# Altium schematic symbol library kmilo17pet-NSC_LDO.SchLib: 2675 symbols (part 60 of 65)
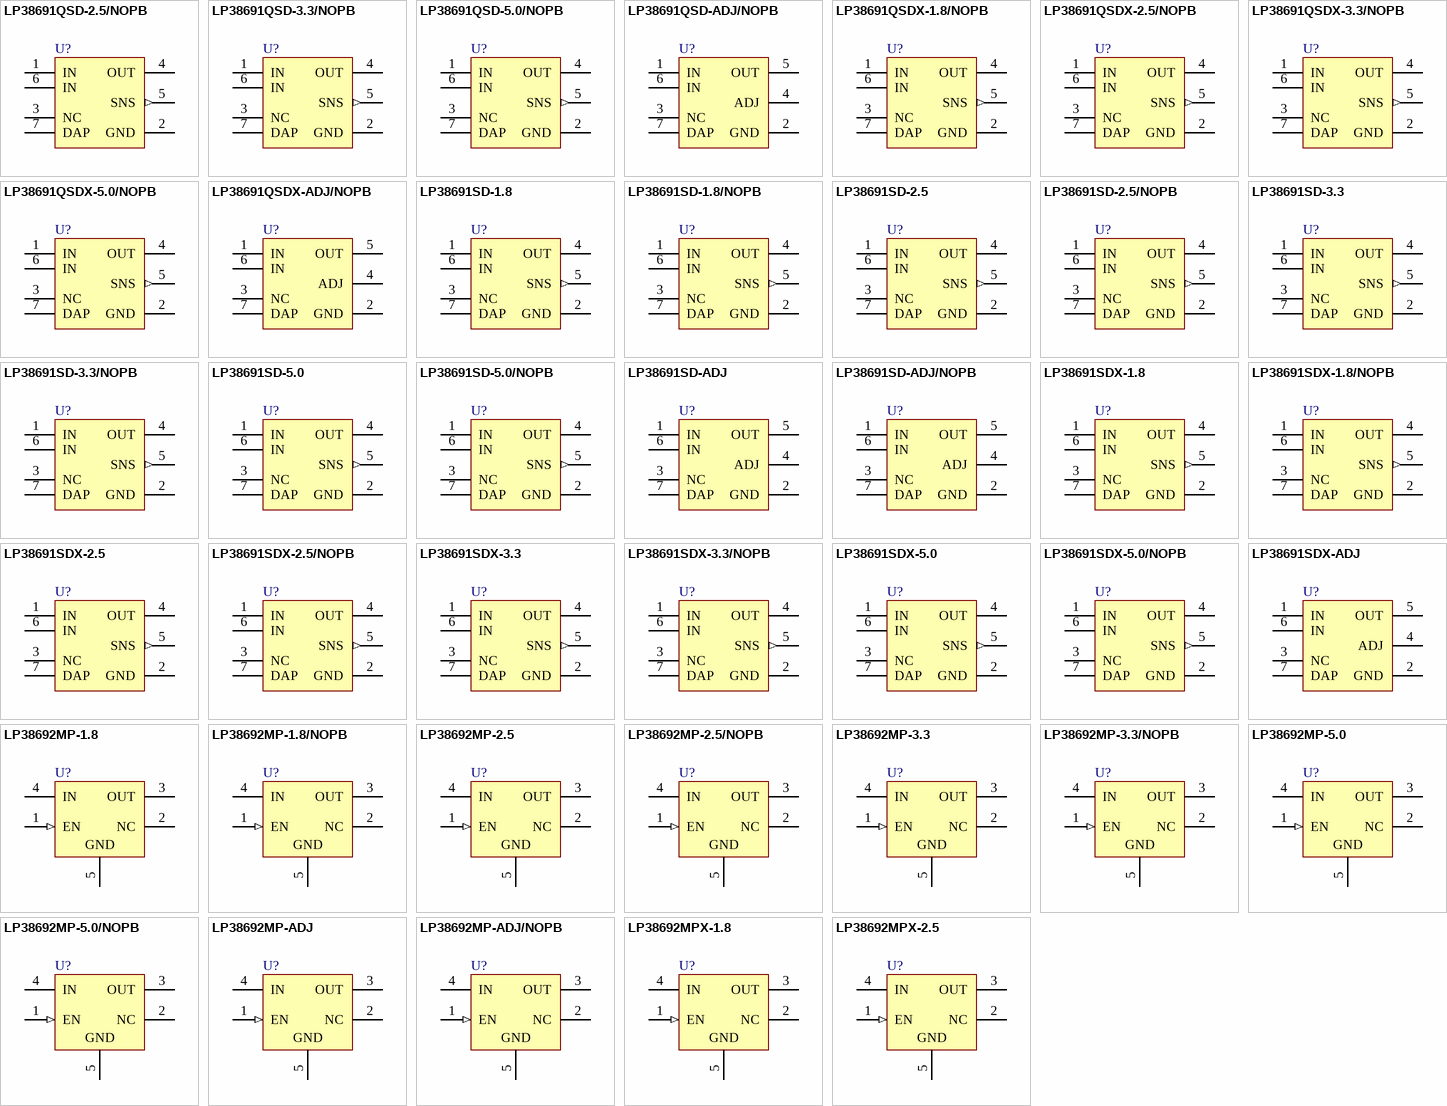
[diagram p126: symbols LP38691QSD-2.5/NOPB to LP38692MPX-2.5]

## LP38692MP-1.8/NOPB
designator U?
1A Low Dropout CMOS Linear Regulators, Stable with Ceramic Output Capacitors, 5-pin SOT-223, Pb-Free; PartNumber: LP38692MP-1.8/NOPB; Manufacturer: National Semiconductor; PackageTopMarking: XYTT*LJPB; PowerWise: Y; CompType: LDO IC; DatasheetVersion: May-2005; PackageVersion: revA, Jan-2000; PackageReference: MP05A; PackageDescription: Moldec SOT-223, 6.50 x 3.56 x 1.6mm Body, 5 Lead, 1.5mm Pitch; RoHS: Y; PinCount: 5; High-Reliability: Y; Code_JEDEC: TO-261-AB; Code_IPC: SOT223-5; ComponentLink1Description: Manufacturer URL; ComponentLink1URL: http://www.national.com/; ComponentLink2Description: LP38692 Datasheet; ComponentLink2URL: http://www.national.com/ds/LP/LP38692.pdf; ComponentLink3Description: LP38692 Web Page; ComponentLink3URL: http://www.national.com/pf/LP/LP38692.html; ComponentLink4Description: MP05A Package Page; ComponentLink4URL: http://www.national.com/packaging/folders/mp05a.html
footprint MP05A_N (SOT223, 5-Leads, Body 6.5x3.5mm, Pitch 1.5mm, Lead Span 7mm, IPC Medium Density)
footprint MP05A_L (SOT223, 5-Leads, Body 6.5x3.5mm, Pitch 1.5mm, Lead Span 7mm, IPC High Density)
footprint MP05A_M (SOT223, 5-Leads, Body 6.5x3.5mm, Pitch 1.5mm, Lead Span 7mm, IPC Low Density)
pins: 1 EN (in), 2 NC, 3 OUT (power), 4 IN (power), 5 GND (power)

## LP38692MP-2.5
designator U?
1A Low Dropout CMOS Linear Regulators, 5-pin SOT-223; PartNumber: LP38692MP-2.5; Manufacturer: National Semiconductor; PackageTopMarking: XYTT*LJRB; PowerWise: Y; CompType: LDO IC; DatasheetVersion: May-2005; PackageVersion: revA, Jan-2000; PackageReference: MP05A; PackageDescription: Moldec SOT-223, 6.50 x 3.56 x 1.6mm Body, 5 Lead, 1.5mm Pitch; RoHS: N; PinCount: 5; High-Reliability: Y; Code_JEDEC: TO-261-AB; Code_IPC: SOT223-5; ComponentLink1Description: Manufacturer URL; ComponentLink1URL: http://www.national.com/; ComponentLink2Description: LP38692 Datasheet; ComponentLink2URL: http://www.national.com/ds/LP/LP38692.pdf; ComponentLink3Description: LP38692 Web Page; ComponentLink3URL: http://www.national.com/pf/LP/LP38692.html; ComponentLink4Description: MP05A Package Page; ComponentLink4URL: http://www.national.com/packaging/folders/mp05a.html
footprint MP05A_N (SOT223, 5-Leads, Body 6.5x3.5mm, Pitch 1.5mm, Lead Span 7mm, IPC Medium Density)
footprint MP05A_L (SOT223, 5-Leads, Body 6.5x3.5mm, Pitch 1.5mm, Lead Span 7mm, IPC High Density)
footprint MP05A_M (SOT223, 5-Leads, Body 6.5x3.5mm, Pitch 1.5mm, Lead Span 7mm, IPC Low Density)
pins: 1 EN (in), 2 NC, 3 OUT (power), 4 IN (power), 5 GND (power)

## LP38692MP-2.5/NOPB
designator U?
1A Low Dropout CMOS Linear Regulators, Stable with Ceramic Output Capacitors, 5-pin SOT-223, Pb-Free; PartNumber: LP38692MP-2.5/NOPB; Manufacturer: National Semiconductor; PackageTopMarking: XYTT*LJRB; PowerWise: Y; CompType: LDO IC; DatasheetVersion: May-2005; PackageVersion: revA, Jan-2000; PackageReference: MP05A; PackageDescription: Moldec SOT-223, 6.50 x 3.56 x 1.6mm Body, 5 Lead, 1.5mm Pitch; RoHS: Y; PinCount: 5; High-Reliability: Y; Code_JEDEC: TO-261-AB; Code_IPC: SOT223-5; ComponentLink1Description: Manufacturer URL; ComponentLink1URL: http://www.national.com/; ComponentLink2Description: LP38692 Datasheet; ComponentLink2URL: http://www.national.com/ds/LP/LP38692.pdf; ComponentLink3Description: LP38692 Web Page; ComponentLink3URL: http://www.national.com/pf/LP/LP38692.html; ComponentLink4Description: MP05A Package Page; ComponentLink4URL: http://www.national.com/packaging/folders/mp05a.html
footprint MP05A_N (SOT223, 5-Leads, Body 6.5x3.5mm, Pitch 1.5mm, Lead Span 7mm, IPC Medium Density)
footprint MP05A_L (SOT223, 5-Leads, Body 6.5x3.5mm, Pitch 1.5mm, Lead Span 7mm, IPC High Density)
footprint MP05A_M (SOT223, 5-Leads, Body 6.5x3.5mm, Pitch 1.5mm, Lead Span 7mm, IPC Low Density)
pins: 1 EN (in), 2 NC, 3 OUT (power), 4 IN (power), 5 GND (power)

## LP38692MP-3.3
designator U?
1A Low Dropout CMOS Linear Regulators, 5-pin SOT-223; PartNumber: LP38692MP-3.3; Manufacturer: National Semiconductor; PackageTopMarking: XYTT*LJSB; PowerWise: Y; CompType: LDO IC; DatasheetVersion: May-2005; PackageVersion: revA, Jan-2000; PackageReference: MP05A; PackageDescription: Moldec SOT-223, 6.50 x 3.56 x 1.6mm Body, 5 Lead, 1.5mm Pitch; RoHS: N; PinCount: 5; High-Reliability: Y; Code_JEDEC: TO-261-AB; Code_IPC: SOT223-5; ComponentLink1Description: Manufacturer URL; ComponentLink1URL: http://www.national.com/; ComponentLink2Description: LP38692 Datasheet; ComponentLink2URL: http://www.national.com/ds/LP/LP38692.pdf; ComponentLink3Description: LP38692 Web Page; ComponentLink3URL: http://www.national.com/pf/LP/LP38692.html; ComponentLink4Description: MP05A Package Page; ComponentLink4URL: http://www.national.com/packaging/folders/mp05a.html
footprint MP05A_N (SOT223, 5-Leads, Body 6.5x3.5mm, Pitch 1.5mm, Lead Span 7mm, IPC Medium Density)
footprint MP05A_L (SOT223, 5-Leads, Body 6.5x3.5mm, Pitch 1.5mm, Lead Span 7mm, IPC High Density)
footprint MP05A_M (SOT223, 5-Leads, Body 6.5x3.5mm, Pitch 1.5mm, Lead Span 7mm, IPC Low Density)
pins: 1 EN (in), 2 NC, 3 OUT (power), 4 IN (power), 5 GND (power)

## LP38692MP-3.3/NOPB
designator U?
1A Low Dropout CMOS Linear Regulators, Stable with Ceramic Output Capacitors, 5-pin SOT-223, Pb-Free; PartNumber: LP38692MP-3.3/NOPB; Manufacturer: National Semiconductor; PackageTopMarking: XYTT*LJSB; PowerWise: Y; CompType: LDO IC; DatasheetVersion: May-2005; PackageVersion: revA, Jan-2000; PackageReference: MP05A; PackageDescription: Moldec SOT-223, 6.50 x 3.56 x 1.6mm Body, 5 Lead, 1.5mm Pitch; RoHS: Y; PinCount: 5; High-Reliability: Y; Code_JEDEC: TO-261-AB; Code_IPC: SOT223-5; ComponentLink1Description: Manufacturer URL; ComponentLink1URL: http://www.national.com/; ComponentLink2Description: LP38692 Datasheet; ComponentLink2URL: http://www.national.com/ds/LP/LP38692.pdf; ComponentLink3Description: LP38692 Web Page; ComponentLink3URL: http://www.national.com/pf/LP/LP38692.html; ComponentLink4Description: MP05A Package Page; ComponentLink4URL: http://www.national.com/packaging/folders/mp05a.html
footprint MP05A_N (SOT223, 5-Leads, Body 6.5x3.5mm, Pitch 1.5mm, Lead Span 7mm, IPC Medium Density)
footprint MP05A_L (SOT223, 5-Leads, Body 6.5x3.5mm, Pitch 1.5mm, Lead Span 7mm, IPC High Density)
footprint MP05A_M (SOT223, 5-Leads, Body 6.5x3.5mm, Pitch 1.5mm, Lead Span 7mm, IPC Low Density)
pins: 1 EN (in), 2 NC, 3 OUT (power), 4 IN (power), 5 GND (power)

## LP38692MP-5.0
designator U?
1A Low Dropout CMOS Linear Regulators, 5-pin SOT-223; PartNumber: LP38692MP-5.0; Manufacturer: National Semiconductor; PackageTopMarking: XYTT*LJTB; PowerWise: Y; CompType: LDO IC; DatasheetVersion: May-2005; PackageVersion: revA, Jan-2000; PackageReference: MP05A; PackageDescription: Moldec SOT-223, 6.50 x 3.56 x 1.6mm Body, 5 Lead, 1.5mm Pitch; RoHS: N; PinCount: 5; High-Reliability: Y; Code_JEDEC: TO-261-AB; Code_IPC: SOT223-5; ComponentLink1Description: Manufacturer URL; ComponentLink1URL: http://www.national.com/; ComponentLink2Description: LP38692 Datasheet; ComponentLink2URL: http://www.national.com/ds/LP/LP38692.pdf; ComponentLink3Description: LP38692 Web Page; ComponentLink3URL: http://www.national.com/pf/LP/LP38692.html; ComponentLink4Description: MP05A Package Page; ComponentLink4URL: http://www.national.com/packaging/folders/mp05a.html
footprint MP05A_N (SOT223, 5-Leads, Body 6.5x3.5mm, Pitch 1.5mm, Lead Span 7mm, IPC Medium Density)
footprint MP05A_L (SOT223, 5-Leads, Body 6.5x3.5mm, Pitch 1.5mm, Lead Span 7mm, IPC High Density)
footprint MP05A_M (SOT223, 5-Leads, Body 6.5x3.5mm, Pitch 1.5mm, Lead Span 7mm, IPC Low Density)
pins: 1 EN (in), 2 NC, 3 OUT (power), 4 IN (power), 5 GND (power)

## LP38692MP-5.0/NOPB
designator U?
1A Low Dropout CMOS Linear Regulators, Stable with Ceramic Output Capacitors, 5-pin SOT-223, Pb-Free; PartNumber: LP38692MP-5.0/NOPB; Manufacturer: National Semiconductor; PackageTopMarking: XYTT*LJTB; PowerWise: Y; CompType: LDO IC; DatasheetVersion: May-2005; PackageVersion: revA, Jan-2000; PackageReference: MP05A; PackageDescription: Moldec SOT-223, 6.50 x 3.56 x 1.6mm Body, 5 Lead, 1.5mm Pitch; RoHS: Y; PinCount: 5; High-Reliability: Y; Code_JEDEC: TO-261-AB; Code_IPC: SOT223-5; ComponentLink1Description: Manufacturer URL; ComponentLink1URL: http://www.national.com/; ComponentLink2Description: LP38692 Datasheet; ComponentLink2URL: http://www.national.com/ds/LP/LP38692.pdf; ComponentLink3Description: LP38692 Web Page; ComponentLink3URL: http://www.national.com/pf/LP/LP38692.html; ComponentLink4Description: MP05A Package Page; ComponentLink4URL: http://www.national.com/packaging/folders/mp05a.html
footprint MP05A_N (SOT223, 5-Leads, Body 6.5x3.5mm, Pitch 1.5mm, Lead Span 7mm, IPC Medium Density)
footprint MP05A_L (SOT223, 5-Leads, Body 6.5x3.5mm, Pitch 1.5mm, Lead Span 7mm, IPC High Density)
footprint MP05A_M (SOT223, 5-Leads, Body 6.5x3.5mm, Pitch 1.5mm, Lead Span 7mm, IPC Low Density)
pins: 1 EN (in), 2 NC, 3 OUT (power), 4 IN (power), 5 GND (power)

## LP38692MP-ADJ
designator U?
1A Low Dropout CMOS Linear Regulators, 5-pin SOT-223; PartNumber: LP38692MP-ADJ; Manufacturer: National Semiconductor; PackageTopMarking: XYTT*LJNB; PowerWise: Y; CompType: LDO IC; DatasheetVersion: Jan-2005; PackageVersion: revA, Jan-2000; PackageReference: MP05A; PackageDescription: Moldec SOT-223, 6.50 x 3.56 x 1.6mm Body, 5 Lead, 1.5mm Pitch; RoHS: N; PinCount: 5; High-Reliability: Y; Code_JEDEC: TO-261-AB; Code_IPC: SOT223-5; ComponentLink1Description: Manufacturer URL; ComponentLink1URL: http://www.national.com/; ComponentLink2Description: LP38692 Datasheet; ComponentLink2URL: http://www.national.com/ds/LP/LP38692-ADJ.pdf; ComponentLink3Description: LP38692 Web Page; ComponentLink3URL: http://www.national.com/pf/LP/LP38692.html; ComponentLink4Description: MP05A Package Page; ComponentLink4URL: http://www.national.com/packaging/folders/mp05a.html
footprint MP05A_N (SOT223, 5-Leads, Body 6.5x3.5mm, Pitch 1.5mm, Lead Span 7mm, IPC Medium Density)
footprint MP05A_L (SOT223, 5-Leads, Body 6.5x3.5mm, Pitch 1.5mm, Lead Span 7mm, IPC High Density)
footprint MP05A_M (SOT223, 5-Leads, Body 6.5x3.5mm, Pitch 1.5mm, Lead Span 7mm, IPC Low Density)
pins: 1 EN (in), 2 NC, 3 OUT (power), 4 IN (power), 5 GND (power)

## LP38692MP-ADJ/NOPB
designator U?
1A Low Dropout CMOS Linear Regulators with Adjustable Output Stable with Ceramic Output Capacitors, 5-pin SOT-223, Pb-Free; PartNumber: LP38692MP-ADJ/NOPB; Manufacturer: National Semiconductor; PackageTopMarking: XYTT*LJNB; PowerWise: Y; CompType: LDO IC; DatasheetVersion: Jan-2005; PackageVersion: revA, Jan-2000; PackageReference: MP05A; PackageDescription: Moldec SOT-223, 6.50 x 3.56 x 1.6mm Body, 5 Lead, 1.5mm Pitch; RoHS: Y; PinCount: 5; High-Reliability: Y; Code_JEDEC: TO-261-AB; Code_IPC: SOT223-5; ComponentLink1Description: Manufacturer URL; ComponentLink1URL: http://www.national.com/; ComponentLink2Description: LP38692 Datasheet; ComponentLink2URL: http://www.national.com/ds/LP/LP38692-ADJ.pdf; ComponentLink3Description: LP38692 Web Page; ComponentLink3URL: http://www.national.com/pf/LP/LP38692.html; ComponentLink4Description: MP05A Package Page; ComponentLink4URL: http://www.national.com/packaging/folders/mp05a.html
footprint MP05A_N (SOT223, 5-Leads, Body 6.5x3.5mm, Pitch 1.5mm, Lead Span 7mm, IPC Medium Density)
footprint MP05A_L (SOT223, 5-Leads, Body 6.5x3.5mm, Pitch 1.5mm, Lead Span 7mm, IPC High Density)
footprint MP05A_M (SOT223, 5-Leads, Body 6.5x3.5mm, Pitch 1.5mm, Lead Span 7mm, IPC Low Density)
pins: 1 EN (in), 2 NC, 3 OUT (power), 4 IN (power), 5 GND (power)

## LP38692MPX-1.8
designator U?
1A Low Dropout CMOS Linear Regulators, Stable with Ceramic Output Capacitors, 5-pin SOT-223; PartNumber: LP38692MPX-1.8; Manufacturer: National Semiconductor; PackageTopMarking: XYTT*LJPB; PowerWise: Y; CompType: LDO IC; DatasheetVersion: May-2005; PackageVersion: revA, Jan-2000; PackageReference: MP05A; PackageDescription: Moldec SOT-223, 6.50 x 3.56 x 1.6mm Body, 5 Lead, 1.5mm Pitch; RoHS: N; PinCount: 5; High-Reliability: Y; Code_JEDEC: TO-261-AB; Code_IPC: SOT223-5; ComponentLink1Description: Manufacturer URL; ComponentLink1URL: http://www.national.com/; ComponentLink2Description: LP38692 Datasheet; ComponentLink2URL: http://www.national.com/ds/LP/LP38692.pdf; ComponentLink3Description: LP38692 Web Page; ComponentLink3URL: http://www.national.com/pf/LP/LP38692.html; ComponentLink4Description: MP05A Package Page; ComponentLink4URL: http://www.national.com/packaging/folders/mp05a.html
footprint MP05A_N (SOT223, 5-Leads, Body 6.5x3.5mm, Pitch 1.5mm, Lead Span 7mm, IPC Medium Density)
footprint MP05A_L (SOT223, 5-Leads, Body 6.5x3.5mm, Pitch 1.5mm, Lead Span 7mm, IPC High Density)
footprint MP05A_M (SOT223, 5-Leads, Body 6.5x3.5mm, Pitch 1.5mm, Lead Span 7mm, IPC Low Density)
pins: 1 EN (in), 2 NC, 3 OUT (power), 4 IN (power), 5 GND (power)

## LP38692MPX-2.5
designator U?
1A Low Dropout CMOS Linear Regulators, Stable with Ceramic Output Capacitors, 5-pin SOT-223; PartNumber: LP38692MPX-2.5; Manufacturer: National Semiconductor; PackageTopMarking: XYTT*LJRB; PowerWise: Y; CompType: LDO IC; DatasheetVersion: May-2005; PackageVersion: revA, Jan-2000; PackageReference: MP05A; PackageDescription: Moldec SOT-223, 6.50 x 3.56 x 1.6mm Body, 5 Lead, 1.5mm Pitch; RoHS: N; PinCount: 5; High-Reliability: Y; Code_JEDEC: TO-261-AB; Code_IPC: SOT223-5; ComponentLink1Description: Manufacturer URL; ComponentLink1URL: http://www.national.com/; ComponentLink2Description: LP38692 Datasheet; ComponentLink2URL: http://www.national.com/ds/LP/LP38692.pdf; ComponentLink3Description: LP38692 Web Page; ComponentLink3URL: http://www.national.com/pf/LP/LP38692.html; ComponentLink4Description: MP05A Package Page; ComponentLink4URL: http://www.national.com/packaging/folders/mp05a.html
footprint MP05A_N (SOT223, 5-Leads, Body 6.5x3.5mm, Pitch 1.5mm, Lead Span 7mm, IPC Medium Density)
footprint MP05A_L (SOT223, 5-Leads, Body 6.5x3.5mm, Pitch 1.5mm, Lead Span 7mm, IPC High Density)
footprint MP05A_M (SOT223, 5-Leads, Body 6.5x3.5mm, Pitch 1.5mm, Lead Span 7mm, IPC Low Density)
pins: 1 EN (in), 2 NC, 3 OUT (power), 4 IN (power), 5 GND (power)

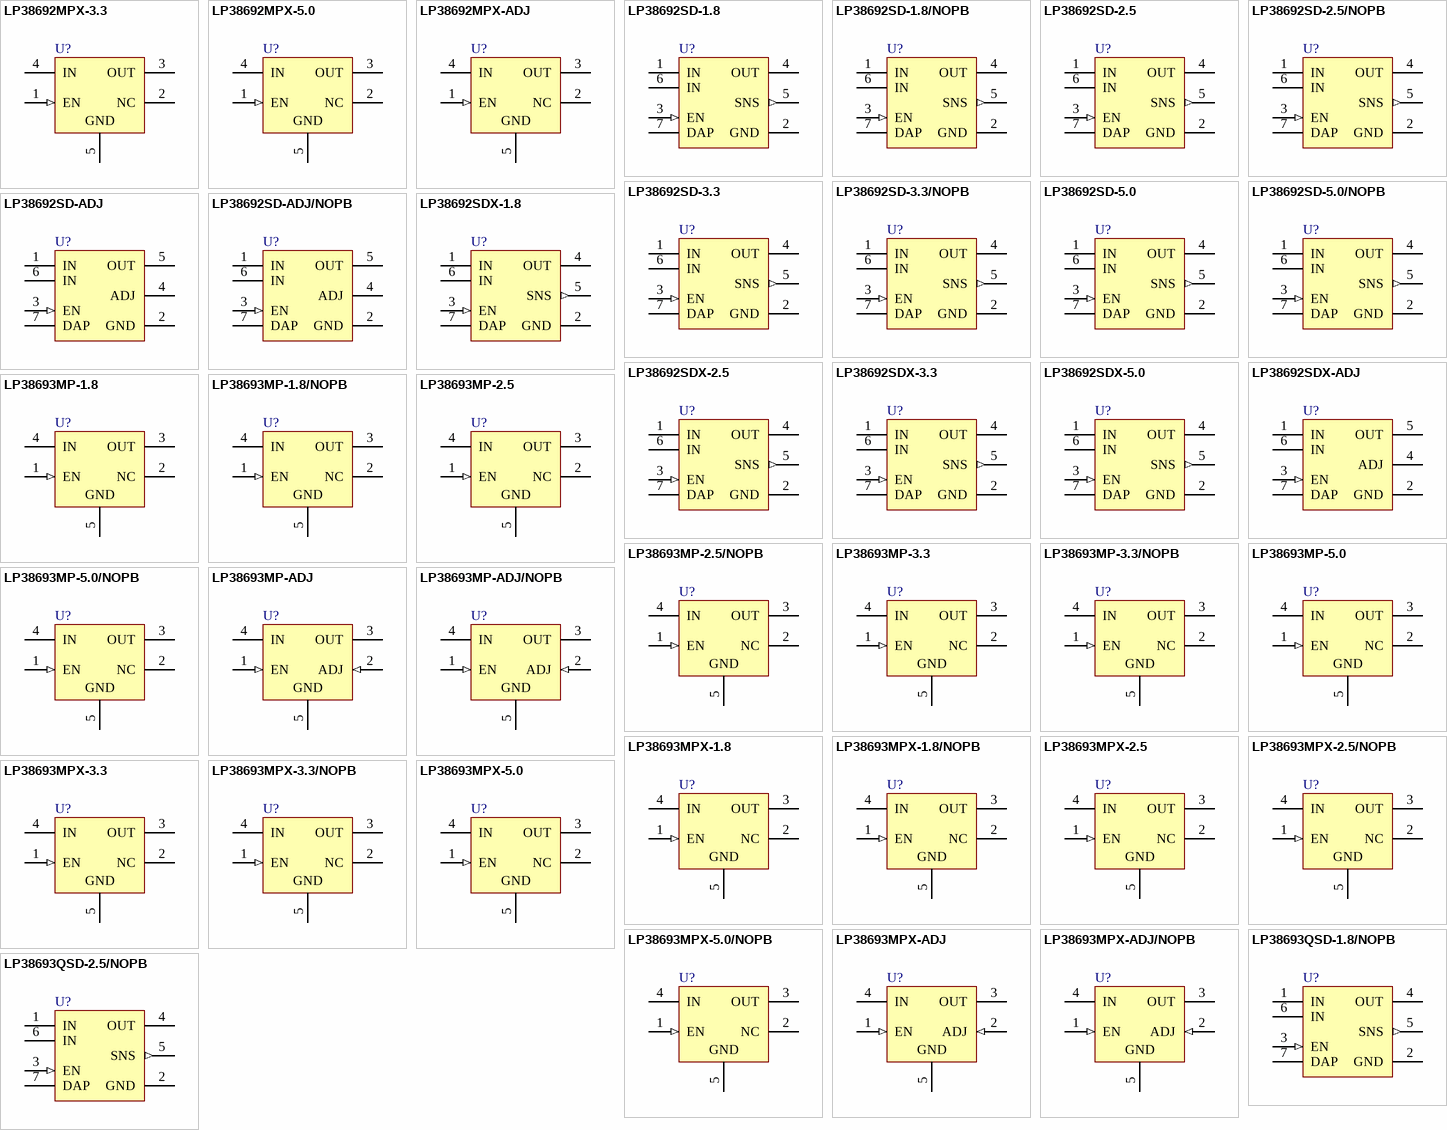
[diagram p62: symbols LP38692MPX-3.3 to LP38693QSD-2.5/NOPB]

## LP38692MPX-3.3
designator U?
1A Low Dropout CMOS Linear Regulators, Stable with Ceramic Output Capacitors, 5-pin SOT-223; PartNumber: LP38692MPX-3.3; Manufacturer: National Semiconductor; PackageTopMarking: XYTT*LJSB; PowerWise: Y; CompType: LDO IC; DatasheetVersion: May-2005; PackageVersion: revA, Jan-2000; PackageReference: MP05A; PackageDescription: Moldec SOT-223, 6.50 x 3.56 x 1.6mm Body, 5 Lead, 1.5mm Pitch; RoHS: N; PinCount: 5; High-Reliability: Y; Code_JEDEC: TO-261-AB; Code_IPC: SOT223-5; ComponentLink1Description: Manufacturer URL; ComponentLink1URL: http://www.national.com/; ComponentLink2Description: LP38692 Datasheet; ComponentLink2URL: http://www.national.com/ds/LP/LP38692.pdf; ComponentLink3Description: LP38692 Web Page; ComponentLink3URL: http://www.national.com/pf/LP/LP38692.html; ComponentLink4Description: MP05A Package Page; ComponentLink4URL: http://www.national.com/packaging/folders/mp05a.html
footprint MP05A_N (SOT223, 5-Leads, Body 6.5x3.5mm, Pitch 1.5mm, Lead Span 7mm, IPC Medium Density)
footprint MP05A_L (SOT223, 5-Leads, Body 6.5x3.5mm, Pitch 1.5mm, Lead Span 7mm, IPC High Density)
footprint MP05A_M (SOT223, 5-Leads, Body 6.5x3.5mm, Pitch 1.5mm, Lead Span 7mm, IPC Low Density)
pins: 1 EN (in), 2 NC, 3 OUT (power), 4 IN (power), 5 GND (power)

## LP38692MPX-5.0
designator U?
1A Low Dropout CMOS Linear Regulators, Stable with Ceramic Output Capacitors, 5-pin SOT-223; PartNumber: LP38692MPX-5.0; Manufacturer: National Semiconductor; PackageTopMarking: XYTT*LJTB; PowerWise: Y; CompType: LDO IC; DatasheetVersion: May-2005; PackageVersion: revA, Jan-2000; PackageReference: MP05A; PackageDescription: Moldec SOT-223, 6.50 x 3.56 x 1.6mm Body, 5 Lead, 1.5mm Pitch; RoHS: N; PinCount: 5; High-Reliability: Y; Code_JEDEC: TO-261-AB; Code_IPC: SOT223-5; ComponentLink1Description: Manufacturer URL; ComponentLink1URL: http://www.national.com/; ComponentLink2Description: LP38692 Datasheet; ComponentLink2URL: http://www.national.com/ds/LP/LP38692.pdf; ComponentLink3Description: LP38692 Web Page; ComponentLink3URL: http://www.national.com/pf/LP/LP38692.html; ComponentLink4Description: MP05A Package Page; ComponentLink4URL: http://www.national.com/packaging/folders/mp05a.html
footprint MP05A_N (SOT223, 5-Leads, Body 6.5x3.5mm, Pitch 1.5mm, Lead Span 7mm, IPC Medium Density)
footprint MP05A_L (SOT223, 5-Leads, Body 6.5x3.5mm, Pitch 1.5mm, Lead Span 7mm, IPC High Density)
footprint MP05A_M (SOT223, 5-Leads, Body 6.5x3.5mm, Pitch 1.5mm, Lead Span 7mm, IPC Low Density)
pins: 1 EN (in), 2 NC, 3 OUT (power), 4 IN (power), 5 GND (power)

## LP38692MPX-ADJ
designator U?
1A Low Dropout CMOS Linear Regulators with Adjustable Output Stable with Ceramic Output Capacitors, 5-pin SOT-223; PartNumber: LP38692MPX-ADJ; Manufacturer: National Semiconductor; PackageTopMarking: XYTT*LJNB; PowerWise: Y; CompType: LDO IC; DatasheetVersion: Jan-2005; PackageVersion: revA, Jan-2000; PackageReference: MP05A; PackageDescription: Moldec SOT-223, 6.50 x 3.56 x 1.6mm Body, 5 Lead, 1.5mm Pitch; RoHS: N; PinCount: 5; High-Reliability: Y; Code_JEDEC: TO-261-AB; Code_IPC: SOT223-5; ComponentLink1Description: Manufacturer URL; ComponentLink1URL: http://www.national.com/; ComponentLink2Description: LP38692 Datasheet; ComponentLink2URL: http://www.national.com/ds/LP/LP38692-ADJ.pdf; ComponentLink3Description: LP38692 Web Page; ComponentLink3URL: http://www.national.com/pf/LP/LP38692.html; ComponentLink4Description: MP05A Package Page; ComponentLink4URL: http://www.national.com/packaging/folders/mp05a.html
footprint MP05A_N (SOT223, 5-Leads, Body 6.5x3.5mm, Pitch 1.5mm, Lead Span 7mm, IPC Medium Density)
footprint MP05A_L (SOT223, 5-Leads, Body 6.5x3.5mm, Pitch 1.5mm, Lead Span 7mm, IPC High Density)
footprint MP05A_M (SOT223, 5-Leads, Body 6.5x3.5mm, Pitch 1.5mm, Lead Span 7mm, IPC Low Density)
pins: 1 EN (in), 2 NC, 3 OUT (power), 4 IN (power), 5 GND (power)

## LP38692SD-1.8
designator U?
1A Low Dropout CMOS Linear Regulators, 6-pin LLP; PartNumber: LP38692SD-1.8; Manufacturer: National Semiconductor; PackageTopMarking: ZXYTT*L123B; PowerWise: Y; CompType: LDO IC; DatasheetVersion: May-2005; PackageVersion: revA, Jul-2003; PackageReference: SDE06A; PackageDescription: LLP, Plastic, Dual, 3 x 3 x 0.8mm Body, 6 Lead, 0.95mm Pitch, No Pullback; RoHS: N; PinCount: 6; High-Reliability: Y; ComponentLink1Description: Manufacturer URL; ComponentLink1URL: http://www.national.com/; ComponentLink2Description: LP38692 Datasheet; ComponentLink2URL: http://www.national.com/ds/LP/LP38692.pdf; ComponentLink3Description: LP38692 Web Page; ComponentLink3URL: http://www.national.com/pf/LP/LP38692.html; ComponentLink4Description: SDE06A Package Page; ComponentLink4URL: http://www.national.com/packaging/folders/sde06a.html
footprint SDE06A_full (SON, 6-Leads, Body 3x3 mm, Pitch 0.95mm, Full Paste, NSC Recommended)
footprint SDE06A_quad (SON, 6-Leads, Body 3x3 mm, Pitch 0.95mm, Quad Paste, NSC Recommended)
pins: 1 IN (power), 2 GND (power), 3 EN (in), 4 OUT (power), 5 SNS (out), 6 IN (power), 7 DAP (power)

## LP38692SD-1.8/NOPB
designator U?
1A Low Dropout CMOS Linear Regulators, Stable with Ceramic Output Capacitors, 6-pin LLP, Pb-Free; PartNumber: LP38692SD-1.8/NOPB; Manufacturer: National Semiconductor; PackageTopMarking: ZXYTT*L123B; PowerWise: Y; CompType: LDO IC; DatasheetVersion: May-2005; PackageVersion: revA, Jul-2003; PackageReference: SDE06A; PackageDescription: LLP, Plastic, Dual, 3 x 3 x 0.8mm Body, 6 Lead, 0.95mm Pitch, No Pullback; RoHS: Y; PinCount: 6; High-Reliability: Y; ComponentLink1Description: Manufacturer URL; ComponentLink1URL: http://www.national.com/; ComponentLink2Description: LP38692 Datasheet; ComponentLink2URL: http://www.national.com/ds/LP/LP38692.pdf; ComponentLink3Description: LP38692 Web Page; ComponentLink3URL: http://www.national.com/pf/LP/LP38692.html; ComponentLink4Description: SDE06A Package Page; ComponentLink4URL: http://www.national.com/packaging/folders/sde06a.html
footprint SDE06A_full (SON, 6-Leads, Body 3x3 mm, Pitch 0.95mm, Full Paste, NSC Recommended)
footprint SDE06A_quad (SON, 6-Leads, Body 3x3 mm, Pitch 0.95mm, Quad Paste, NSC Recommended)
pins: 1 IN (power), 2 GND (power), 3 EN (in), 4 OUT (power), 5 SNS (out), 6 IN (power), 7 DAP (power)

## LP38692SD-2.5
designator U?
1A Low Dropout CMOS Linear Regulators, 6-pin LLP; PartNumber: LP38692SD-2.5; Manufacturer: National Semiconductor; PackageTopMarking: ZXYTT*L124B; PowerWise: Y; CompType: LDO IC; DatasheetVersion: May-2005; PackageVersion: revA, Jul-2003; PackageReference: SDE06A; PackageDescription: LLP, Plastic, Dual, 3 x 3 x 0.8mm Body, 6 Lead, 0.95mm Pitch, No Pullback; RoHS: N; PinCount: 6; High-Reliability: Y; ComponentLink1Description: Manufacturer URL; ComponentLink1URL: http://www.national.com/; ComponentLink2Description: LP38692 Datasheet; ComponentLink2URL: http://www.national.com/ds/LP/LP38692.pdf; ComponentLink3Description: LP38692 Web Page; ComponentLink3URL: http://www.national.com/pf/LP/LP38692.html; ComponentLink4Description: SDE06A Package Page; ComponentLink4URL: http://www.national.com/packaging/folders/sde06a.html
footprint SDE06A_full (SON, 6-Leads, Body 3x3 mm, Pitch 0.95mm, Full Paste, NSC Recommended)
footprint SDE06A_quad (SON, 6-Leads, Body 3x3 mm, Pitch 0.95mm, Quad Paste, NSC Recommended)
pins: 1 IN (power), 2 GND (power), 3 EN (in), 4 OUT (power), 5 SNS (out), 6 IN (power), 7 DAP (power)

## LP38692SD-2.5/NOPB
designator U?
1A Low Dropout CMOS Linear Regulators, Stable with Ceramic Output Capacitors, 6-pin LLP, Pb-Free; PartNumber: LP38692SD-2.5/NOPB; Manufacturer: National Semiconductor; PackageTopMarking: ZXYTT*L124B; PowerWise: Y; CompType: LDO IC; DatasheetVersion: May-2005; PackageVersion: revA, Jul-2003; PackageReference: SDE06A; PackageDescription: LLP, Plastic, Dual, 3 x 3 x 0.8mm Body, 6 Lead, 0.95mm Pitch, No Pullback; RoHS: Y; PinCount: 6; High-Reliability: Y; ComponentLink1Description: Manufacturer URL; ComponentLink1URL: http://www.national.com/; ComponentLink2Description: LP38692 Datasheet; ComponentLink2URL: http://www.national.com/ds/LP/LP38692.pdf; ComponentLink3Description: LP38692 Web Page; ComponentLink3URL: http://www.national.com/pf/LP/LP38692.html; ComponentLink4Description: SDE06A Package Page; ComponentLink4URL: http://www.national.com/packaging/folders/sde06a.html
footprint SDE06A_full (SON, 6-Leads, Body 3x3 mm, Pitch 0.95mm, Full Paste, NSC Recommended)
footprint SDE06A_quad (SON, 6-Leads, Body 3x3 mm, Pitch 0.95mm, Quad Paste, NSC Recommended)
pins: 1 IN (power), 2 GND (power), 3 EN (in), 4 OUT (power), 5 SNS (out), 6 IN (power), 7 DAP (power)

## LP38692SD-3.3
designator U?
1A Low Dropout CMOS Linear Regulators, 6-pin LLP; PartNumber: LP38692SD-3.3; Manufacturer: National Semiconductor; PackageTopMarking: ZXYTT*L125B; PowerWise: Y; CompType: LDO IC; DatasheetVersion: May-2005; PackageVersion: revA, Jul-2003; PackageReference: SDE06A; PackageDescription: LLP, Plastic, Dual, 3 x 3 x 0.8mm Body, 6 Lead, 0.95mm Pitch, No Pullback; RoHS: N; PinCount: 6; High-Reliability: Y; ComponentLink1Description: Manufacturer URL; ComponentLink1URL: http://www.national.com/; ComponentLink2Description: LP38692 Datasheet; ComponentLink2URL: http://www.national.com/ds/LP/LP38692.pdf; ComponentLink3Description: LP38692 Web Page; ComponentLink3URL: http://www.national.com/pf/LP/LP38692.html; ComponentLink4Description: SDE06A Package Page; ComponentLink4URL: http://www.national.com/packaging/folders/sde06a.html
footprint SDE06A_full (SON, 6-Leads, Body 3x3 mm, Pitch 0.95mm, Full Paste, NSC Recommended)
footprint SDE06A_quad (SON, 6-Leads, Body 3x3 mm, Pitch 0.95mm, Quad Paste, NSC Recommended)
pins: 1 IN (power), 2 GND (power), 3 EN (in), 4 OUT (power), 5 SNS (out), 6 IN (power), 7 DAP (power)

## LP38692SD-3.3/NOPB
designator U?
1A Low Dropout CMOS Linear Regulators, Stable with Ceramic Output Capacitors, 6-pin LLP, Pb-Free; PartNumber: LP38692SD-3.3/NOPB; Manufacturer: National Semiconductor; PackageTopMarking: ZXYTT*L125B; PowerWise: Y; CompType: LDO IC; DatasheetVersion: May-2005; PackageVersion: revA, Jul-2003; PackageReference: SDE06A; PackageDescription: LLP, Plastic, Dual, 3 x 3 x 0.8mm Body, 6 Lead, 0.95mm Pitch, No Pullback; RoHS: Y; PinCount: 6; High-Reliability: Y; ComponentLink1Description: Manufacturer URL; ComponentLink1URL: http://www.national.com/; ComponentLink2Description: LP38692 Datasheet; ComponentLink2URL: http://www.national.com/ds/LP/LP38692.pdf; ComponentLink3Description: LP38692 Web Page; ComponentLink3URL: http://www.national.com/pf/LP/LP38692.html; ComponentLink4Description: SDE06A Package Page; ComponentLink4URL: http://www.national.com/packaging/folders/sde06a.html
footprint SDE06A_full (SON, 6-Leads, Body 3x3 mm, Pitch 0.95mm, Full Paste, NSC Recommended)
footprint SDE06A_quad (SON, 6-Leads, Body 3x3 mm, Pitch 0.95mm, Quad Paste, NSC Recommended)
pins: 1 IN (power), 2 GND (power), 3 EN (in), 4 OUT (power), 5 SNS (out), 6 IN (power), 7 DAP (power)

## LP38692SD-5.0
designator U?
1A Low Dropout CMOS Linear Regulators, 6-pin LLP; PartNumber: LP38692SD-5.0; Manufacturer: National Semiconductor; PackageTopMarking: ZXYTT*L126B; PowerWise: Y; CompType: LDO IC; DatasheetVersion: May-2005; PackageVersion: revA, Jul-2003; PackageReference: SDE06A; PackageDescription: LLP, Plastic, Dual, 3 x 3 x 0.8mm Body, 6 Lead, 0.95mm Pitch, No Pullback; RoHS: N; PinCount: 6; High-Reliability: Y; ComponentLink1Description: Manufacturer URL; ComponentLink1URL: http://www.national.com/; ComponentLink2Description: LP38692 Datasheet; ComponentLink2URL: http://www.national.com/ds/LP/LP38692.pdf; ComponentLink3Description: LP38692 Web Page; ComponentLink3URL: http://www.national.com/pf/LP/LP38692.html; ComponentLink4Description: SDE06A Package Page; ComponentLink4URL: http://www.national.com/packaging/folders/sde06a.html
footprint SDE06A_full (SON, 6-Leads, Body 3x3 mm, Pitch 0.95mm, Full Paste, NSC Recommended)
footprint SDE06A_quad (SON, 6-Leads, Body 3x3 mm, Pitch 0.95mm, Quad Paste, NSC Recommended)
pins: 1 IN (power), 2 GND (power), 3 EN (in), 4 OUT (power), 5 SNS (out), 6 IN (power), 7 DAP (power)

## LP38692SD-5.0/NOPB
designator U?
1A Low Dropout CMOS Linear Regulators, Stable with Ceramic Output Capacitors, 6-pin LLP, Pb-Free; PartNumber: LP38692SD-5.0/NOPB; Manufacturer: National Semiconductor; PackageTopMarking: ZXYTT*L126B; PowerWise: Y; CompType: LDO IC; DatasheetVersion: May-2005; PackageVersion: revA, Jul-2003; PackageReference: SDE06A; PackageDescription: LLP, Plastic, Dual, 3 x 3 x 0.8mm Body, 6 Lead, 0.95mm Pitch, No Pullback; RoHS: Y; PinCount: 6; High-Reliability: Y; ComponentLink1Description: Manufacturer URL; ComponentLink1URL: http://www.national.com/; ComponentLink2Description: LP38692 Datasheet; ComponentLink2URL: http://www.national.com/ds/LP/LP38692.pdf; ComponentLink3Description: LP38692 Web Page; ComponentLink3URL: http://www.national.com/pf/LP/LP38692.html; ComponentLink4Description: SDE06A Package Page; ComponentLink4URL: http://www.national.com/packaging/folders/sde06a.html
footprint SDE06A_full (SON, 6-Leads, Body 3x3 mm, Pitch 0.95mm, Full Paste, NSC Recommended)
footprint SDE06A_quad (SON, 6-Leads, Body 3x3 mm, Pitch 0.95mm, Quad Paste, NSC Recommended)
pins: 1 IN (power), 2 GND (power), 3 EN (in), 4 OUT (power), 5 SNS (out), 6 IN (power), 7 DAP (power)

## LP38692SD-ADJ
designator U?
1A Low Dropout CMOS Linear Regulators, 6-pin LLP; PartNumber: LP38692SD-ADJ; Manufacturer: National Semiconductor; PackageTopMarking: ZXYTT*L122B; PowerWise: Y; CompType: LDO IC; DatasheetVersion: Jan-2005; PackageVersion: revA, Jul-2003; PackageReference: SDE06A; PackageDescription: LLP, Plastic, Dual, 3 x 3 x 0.8mm Body, 6 Lead, 0.95mm Pitch, No Pullback; RoHS: N; PinCount: 6; High-Reliability: Y; ComponentLink1Description: Manufacturer URL; ComponentLink1URL: http://www.national.com/; ComponentLink2Description: LP38692 Datasheet; ComponentLink2URL: http://www.national.com/ds/LP/LP38692-ADJ.pdf; ComponentLink3Description: LP38692 Web Page; ComponentLink3URL: http://www.national.com/pf/LP/LP38692.html; ComponentLink4Description: SDE06A Package Page; ComponentLink4URL: http://www.national.com/packaging/folders/sde06a.html
footprint SDE06A_full (SON, 6-Leads, Body 3x3 mm, Pitch 0.95mm, Full Paste, NSC Recommended)
footprint SDE06A_quad (SON, 6-Leads, Body 3x3 mm, Pitch 0.95mm, Quad Paste, NSC Recommended)
pins: 1 IN (power), 2 GND (power), 3 EN (in), 4 ADJ, 5 OUT (power), 6 IN (power), 7 DAP (power)

## LP38692SD-ADJ/NOPB
designator U?
1A Low Dropout CMOS Linear Regulators with Adjustable Output Stable with Ceramic Output Capacitors, 6-pin LLP, Pb-Free; PartNumber: LP38692SD-ADJ/NOPB; Manufacturer: National Semiconductor; PackageTopMarking: ZXYTT*L122B; PowerWise: Y; CompType: LDO IC; DatasheetVersion: Jan-2005; PackageVersion: revA, Jul-2003; PackageReference: SDE06A; PackageDescription: LLP, Plastic, Dual, 3 x 3 x 0.8mm Body, 6 Lead, 0.95mm Pitch, No Pullback; RoHS: Y; PinCount: 6; High-Reliability: Y; ComponentLink1Description: Manufacturer URL; ComponentLink1URL: http://www.national.com/; ComponentLink2Description: LP38692 Datasheet; ComponentLink2URL: http://www.national.com/ds/LP/LP38692-ADJ.pdf; ComponentLink3Description: LP38692 Web Page; ComponentLink3URL: http://www.national.com/pf/LP/LP38692.html; ComponentLink4Description: SDE06A Package Page; ComponentLink4URL: http://www.national.com/packaging/folders/sde06a.html
footprint SDE06A_full (SON, 6-Leads, Body 3x3 mm, Pitch 0.95mm, Full Paste, NSC Recommended)
footprint SDE06A_quad (SON, 6-Leads, Body 3x3 mm, Pitch 0.95mm, Quad Paste, NSC Recommended)
pins: 1 IN (power), 2 GND (power), 3 EN (in), 4 ADJ, 5 OUT (power), 6 IN (power), 7 DAP (power)

## LP38692SDX-1.8
designator U?
1A Low Dropout CMOS Linear Regulators, Stable with Ceramic Output Capacitors, 6-pin LLP; PartNumber: LP38692SDX-1.8; Manufacturer: National Semiconductor; PackageTopMarking: ZXYTT*L123B; PowerWise: Y; CompType: LDO IC; DatasheetVersion: May-2005; PackageVersion: revA, Jul-2003; PackageReference: SDE06A; PackageDescription: LLP, Plastic, Dual, 3 x 3 x 0.8mm Body, 6 Lead, 0.95mm Pitch, No Pullback; RoHS: N; PinCount: 6; High-Reliability: Y; ComponentLink1Description: Manufacturer URL; ComponentLink1URL: http://www.national.com/; ComponentLink2Description: LP38692 Datasheet; ComponentLink2URL: http://www.national.com/ds/LP/LP38692.pdf; ComponentLink3Description: LP38692 Web Page; ComponentLink3URL: http://www.national.com/pf/LP/LP38692.html; ComponentLink4Description: SDE06A Package Page; ComponentLink4URL: http://www.national.com/packaging/folders/sde06a.html
footprint SDE06A_full (SON, 6-Leads, Body 3x3 mm, Pitch 0.95mm, Full Paste, NSC Recommended)
footprint SDE06A_quad (SON, 6-Leads, Body 3x3 mm, Pitch 0.95mm, Quad Paste, NSC Recommended)
pins: 1 IN (power), 2 GND (power), 3 EN (in), 4 OUT (power), 5 SNS (out), 6 IN (power), 7 DAP (power)

## LP38692SDX-2.5
designator U?
1A Low Dropout CMOS Linear Regulators, Stable with Ceramic Output Capacitors, 6-pin LLP; PartNumber: LP38692SDX-2.5; Manufacturer: National Semiconductor; PackageTopMarking: ZXYTT*L124B; PowerWise: Y; CompType: LDO IC; DatasheetVersion: May-2005; PackageVersion: revA, Jul-2003; PackageReference: SDE06A; PackageDescription: LLP, Plastic, Dual, 3 x 3 x 0.8mm Body, 6 Lead, 0.95mm Pitch, No Pullback; RoHS: N; PinCount: 6; High-Reliability: Y; ComponentLink1Description: Manufacturer URL; ComponentLink1URL: http://www.national.com/; ComponentLink2Description: LP38692 Datasheet; ComponentLink2URL: http://www.national.com/ds/LP/LP38692.pdf; ComponentLink3Description: LP38692 Web Page; ComponentLink3URL: http://www.national.com/pf/LP/LP38692.html; ComponentLink4Description: SDE06A Package Page; ComponentLink4URL: http://www.national.com/packaging/folders/sde06a.html
footprint SDE06A_full (SON, 6-Leads, Body 3x3 mm, Pitch 0.95mm, Full Paste, NSC Recommended)
footprint SDE06A_quad (SON, 6-Leads, Body 3x3 mm, Pitch 0.95mm, Quad Paste, NSC Recommended)
pins: 1 IN (power), 2 GND (power), 3 EN (in), 4 OUT (power), 5 SNS (out), 6 IN (power), 7 DAP (power)

## LP38692SDX-3.3
designator U?
1A Low Dropout CMOS Linear Regulators, Stable with Ceramic Output Capacitors, 6-pin LLP; PartNumber: LP38692SDX-3.3; Manufacturer: National Semiconductor; PackageTopMarking: ZXYTT*L125B; PowerWise: Y; CompType: LDO IC; DatasheetVersion: May-2005; PackageVersion: revA, Jul-2003; PackageReference: SDE06A; PackageDescription: LLP, Plastic, Dual, 3 x 3 x 0.8mm Body, 6 Lead, 0.95mm Pitch, No Pullback; RoHS: N; PinCount: 6; High-Reliability: Y; ComponentLink1Description: Manufacturer URL; ComponentLink1URL: http://www.national.com/; ComponentLink2Description: LP38692 Datasheet; ComponentLink2URL: http://www.national.com/ds/LP/LP38692.pdf; ComponentLink3Description: LP38692 Web Page; ComponentLink3URL: http://www.national.com/pf/LP/LP38692.html; ComponentLink4Description: SDE06A Package Page; ComponentLink4URL: http://www.national.com/packaging/folders/sde06a.html
footprint SDE06A_full (SON, 6-Leads, Body 3x3 mm, Pitch 0.95mm, Full Paste, NSC Recommended)
footprint SDE06A_quad (SON, 6-Leads, Body 3x3 mm, Pitch 0.95mm, Quad Paste, NSC Recommended)
pins: 1 IN (power), 2 GND (power), 3 EN (in), 4 OUT (power), 5 SNS (out), 6 IN (power), 7 DAP (power)

## LP38692SDX-5.0
designator U?
1A Low Dropout CMOS Linear Regulators, Stable with Ceramic Output Capacitors, 6-pin LLP; PartNumber: LP38692SDX-5.0; Manufacturer: National Semiconductor; PackageTopMarking: ZXYTT*L126B; PowerWise: Y; CompType: LDO IC; DatasheetVersion: May-2005; PackageVersion: revA, Jul-2003; PackageReference: SDE06A; PackageDescription: LLP, Plastic, Dual, 3 x 3 x 0.8mm Body, 6 Lead, 0.95mm Pitch, No Pullback; RoHS: N; PinCount: 6; High-Reliability: Y; ComponentLink1Description: Manufacturer URL; ComponentLink1URL: http://www.national.com/; ComponentLink2Description: LP38692 Datasheet; ComponentLink2URL: http://www.national.com/ds/LP/LP38692.pdf; ComponentLink3Description: LP38692 Web Page; ComponentLink3URL: http://www.national.com/pf/LP/LP38692.html; ComponentLink4Description: SDE06A Package Page; ComponentLink4URL: http://www.national.com/packaging/folders/sde06a.html
footprint SDE06A_full (SON, 6-Leads, Body 3x3 mm, Pitch 0.95mm, Full Paste, NSC Recommended)
footprint SDE06A_quad (SON, 6-Leads, Body 3x3 mm, Pitch 0.95mm, Quad Paste, NSC Recommended)
pins: 1 IN (power), 2 GND (power), 3 EN (in), 4 OUT (power), 5 SNS (out), 6 IN (power), 7 DAP (power)

## LP38692SDX-ADJ
designator U?
1A Low Dropout CMOS Linear Regulators with Adjustable Output Stable with Ceramic Output Capacitors, 6-pin LLP; PartNumber: LP38692SDX-ADJ; Manufacturer: National Semiconductor; PackageTopMarking: ZXYTT*L122B; PowerWise: Y; CompType: LDO IC; DatasheetVersion: Jan-2005; PackageVersion: revA, Jul-2003; PackageReference: SDE06A; PackageDescription: LLP, Plastic, Dual, 3 x 3 x 0.8mm Body, 6 Lead, 0.95mm Pitch, No Pullback; RoHS: N; PinCount: 6; High-Reliability: Y; ComponentLink1Description: Manufacturer URL; ComponentLink1URL: http://www.national.com/; ComponentLink2Description: LP38692 Datasheet; ComponentLink2URL: http://www.national.com/ds/LP/LP38692-ADJ.pdf; ComponentLink3Description: LP38692 Web Page; ComponentLink3URL: http://www.national.com/pf/LP/LP38692.html; ComponentLink4Description: SDE06A Package Page; ComponentLink4URL: http://www.national.com/packaging/folders/sde06a.html
footprint SDE06A_full (SON, 6-Leads, Body 3x3 mm, Pitch 0.95mm, Full Paste, NSC Recommended)
footprint SDE06A_quad (SON, 6-Leads, Body 3x3 mm, Pitch 0.95mm, Quad Paste, NSC Recommended)
pins: 1 IN (power), 2 GND (power), 3 EN (in), 4 ADJ, 5 OUT (power), 6 IN (power), 7 DAP (power)

## LP38693MP-1.8
designator U?
500mA Low Dropout CMOS Linear Regulators, 5-pin SOT-223, 1000 Reel; PartNumber: LP38693MP-1.8; Manufacturer: National Semiconductor; PackageTopMarking: XYTT*LJVB; PowerWise: Y; CompType: LDO IC; DatasheetVersion: Jun-2011; PackageVersion: revA, Jan-2000; PackageReference: MP05A; PackageDescription: Moldec SOT-223, 6.50 x 3.56 x 1.6mm Body, 5 Lead, 1.5mm Pitch; RoHS: N; PinCount: 5; High-Reliability: Y; Code_JEDEC: TO-261-AB; Code_IPC: SOT223-5; ComponentLink1Description: Manufacturer URL; ComponentLink1URL: http://www.national.com/; ComponentLink2Description: LP38693 Datasheet; ComponentLink2URL: http://www.national.com/ds/LP/LP38691.pdf; ComponentLink3Description: LP38693 Web Page; ComponentLink3URL: http://www.national.com/pf/LP/LP38693.html; ComponentLink4Description: MP05A Package Page; ComponentLink4URL: http://www.national.com/packaging/folders/mp05a.html
footprint MP05A_N (SOT223, 5-Leads, Body 6.5x3.5mm, Pitch 1.5mm, Lead Span 7mm, IPC Medium Density)
footprint MP05A_L (SOT223, 5-Leads, Body 6.5x3.5mm, Pitch 1.5mm, Lead Span 7mm, IPC High Density)
footprint MP05A_M (SOT223, 5-Leads, Body 6.5x3.5mm, Pitch 1.5mm, Lead Span 7mm, IPC Low Density)
pins: 1 EN (in), 2 NC, 3 OUT (power), 4 IN (power), 5 GND (power)

## LP38693MP-1.8/NOPB
designator U?
500mA Low Dropout CMOS Linear Regulators Stable with Ceramic Output Capacitors, 5-pin SOT-223, Pb-Free, 1000 Reel; PartNumber: LP38693MP-1.8/NOPB; Manufacturer: National Semiconductor; PackageTopMarking: XYTT*LJVB; PowerWise: Y; CompType: LDO IC; DatasheetVersion: Jun-2011; PackageVersion: revA, Jan-2000; PackageReference: MP05A; PackageDescription: Moldec SOT-223, 6.50 x 3.56 x 1.6mm Body, 5 Lead, 1.5mm Pitch; RoHS: Y; PinCount: 5; High-Reliability: Y; Code_JEDEC: TO-261-AB; Code_IPC: SOT223-5; ComponentLink1Description: Manufacturer URL; ComponentLink1URL: http://www.national.com/; ComponentLink2Description: LP38693 Datasheet; ComponentLink2URL: http://www.national.com/ds/LP/LP38691.pdf; ComponentLink3Description: LP38693 Web Page; ComponentLink3URL: http://www.national.com/pf/LP/LP38693.html; ComponentLink4Description: MP05A Package Page; ComponentLink4URL: http://www.national.com/packaging/folders/mp05a.html
footprint MP05A_N (SOT223, 5-Leads, Body 6.5x3.5mm, Pitch 1.5mm, Lead Span 7mm, IPC Medium Density)
footprint MP05A_L (SOT223, 5-Leads, Body 6.5x3.5mm, Pitch 1.5mm, Lead Span 7mm, IPC High Density)
footprint MP05A_M (SOT223, 5-Leads, Body 6.5x3.5mm, Pitch 1.5mm, Lead Span 7mm, IPC Low Density)
pins: 1 EN (in), 2 NC, 3 OUT (power), 4 IN (power), 5 GND (power)

## LP38693MP-2.5
designator U?
500mA Low Dropout CMOS Linear Regulators, 5-pin SOT-223; PartNumber: LP38693MP-2.5; Manufacturer: National Semiconductor; PackageTopMarking: XYTT*LJXB; PowerWise: Y; CompType: LDO IC; DatasheetVersion: Sep-2005; PackageVersion: revA, Jan-2000; PackageReference: MP05A; PackageDescription: Moldec SOT-223, 6.50 x 3.56 x 1.6mm Body, 5 Lead, 1.5mm Pitch; RoHS: Y; PinCount: 5; High-Reliability: Y; Code_JEDEC: TO-261-AB; Code_IPC: SOT223-5; ComponentLink1Description: Manufacturer URL; ComponentLink1URL: http://www.national.com/; ComponentLink2Description: LP38693 Datasheet; ComponentLink2URL: http://www.national.com/ds/LP/LP38693.pdf; ComponentLink3Description: LP38693 Web Page; ComponentLink3URL: http://www.national.com/pf/LP/LP38693.html; ComponentLink4Description: MP05A Package Page; ComponentLink4URL: http://www.national.com/packaging/folders/mp05a.html
footprint MP05A_N (SOT223, 5-Leads, Body 6.5x3.5mm, Pitch 1.5mm, Lead Span 7mm, IPC Medium Density)
footprint MP05A_L (SOT223, 5-Leads, Body 6.5x3.5mm, Pitch 1.5mm, Lead Span 7mm, IPC High Density)
footprint MP05A_M (SOT223, 5-Leads, Body 6.5x3.5mm, Pitch 1.5mm, Lead Span 7mm, IPC Low Density)
pins: 1 EN (in), 2 NC, 3 OUT (power), 4 IN (power), 5 GND (power)

## LP38693MP-2.5/NOPB
designator U?
500mA Low Dropout CMOS Linear Regulators Stable with Ceramic Output Capacitors, 5-pin SOT-223, Pb-Free, 1000 Reel; PartNumber: LP38693MP-2.5/NOPB; Manufacturer: National Semiconductor; PackageTopMarking: XYTT*LJXB; PowerWise: Y; CompType: LDO IC; DatasheetVersion: Jun-2011; PackageVersion: revA, Jan-2000; PackageReference: MP05A; PackageDescription: Moldec SOT-223, 6.50 x 3.56 x 1.6mm Body, 5 Lead, 1.5mm Pitch; RoHS: Y; PinCount: 5; High-Reliability: Y; Code_JEDEC: TO-261-AB; Code_IPC: SOT223-5; ComponentLink1Description: Manufacturer URL; ComponentLink1URL: http://www.national.com/; ComponentLink2Description: LP38693 Datasheet; ComponentLink2URL: http://www.national.com/ds/LP/LP38691.pdf; ComponentLink3Description: LP38693 Web Page; ComponentLink3URL: http://www.national.com/pf/LP/LP38693.html; ComponentLink4Description: MP05A Package Page; ComponentLink4URL: http://www.national.com/packaging/folders/mp05a.html
footprint MP05A_N (SOT223, 5-Leads, Body 6.5x3.5mm, Pitch 1.5mm, Lead Span 7mm, IPC Medium Density)
footprint MP05A_L (SOT223, 5-Leads, Body 6.5x3.5mm, Pitch 1.5mm, Lead Span 7mm, IPC High Density)
footprint MP05A_M (SOT223, 5-Leads, Body 6.5x3.5mm, Pitch 1.5mm, Lead Span 7mm, IPC Low Density)
pins: 1 EN (in), 2 NC, 3 OUT (power), 4 IN (power), 5 GND (power)

## LP38693MP-3.3
designator U?
500mA Low Dropout CMOS Linear Regulators, 5-pin SOT-223, 1000 Reel; PartNumber: LP38693MP-3.3; Manufacturer: National Semiconductor; PackageTopMarking: XYTT*LJYB; PowerWise: Y; CompType: LDO IC; DatasheetVersion: Jun-2011; PackageVersion: revA, Jan-2000; PackageReference: MP05A; PackageDescription: Moldec SOT-223, 6.50 x 3.56 x 1.6mm Body, 5 Lead, 1.5mm Pitch; RoHS: N; PinCount: 5; High-Reliability: Y; Code_JEDEC: TO-261-AB; Code_IPC: SOT223-5; ComponentLink1Description: Manufacturer URL; ComponentLink1URL: http://www.national.com/; ComponentLink2Description: LP38693 Datasheet; ComponentLink2URL: http://www.national.com/ds/LP/LP38691.pdf; ComponentLink3Description: LP38693 Web Page; ComponentLink3URL: http://www.national.com/pf/LP/LP38693.html; ComponentLink4Description: MP05A Package Page; ComponentLink4URL: http://www.national.com/packaging/folders/mp05a.html
footprint MP05A_N (SOT223, 5-Leads, Body 6.5x3.5mm, Pitch 1.5mm, Lead Span 7mm, IPC Medium Density)
footprint MP05A_L (SOT223, 5-Leads, Body 6.5x3.5mm, Pitch 1.5mm, Lead Span 7mm, IPC High Density)
footprint MP05A_M (SOT223, 5-Leads, Body 6.5x3.5mm, Pitch 1.5mm, Lead Span 7mm, IPC Low Density)
pins: 1 EN (in), 2 NC, 3 OUT (power), 4 IN (power), 5 GND (power)

## LP38693MP-3.3/NOPB
designator U?
500mA Low Dropout CMOS Linear Regulators Stable with Ceramic Output Capacitors, 5-pin SOT-223, Pb-Free, 1000 Reel; PartNumber: LP38693MP-3.3/NOPB; Manufacturer: National Semiconductor; PackageTopMarking: XYTT*LJYB; PowerWise: Y; CompType: LDO IC; DatasheetVersion: Jun-2011; PackageVersion: revA, Jan-2000; PackageReference: MP05A; PackageDescription: Moldec SOT-223, 6.50 x 3.56 x 1.6mm Body, 5 Lead, 1.5mm Pitch; RoHS: Y; PinCount: 5; High-Reliability: Y; Code_JEDEC: TO-261-AB; Code_IPC: SOT223-5; ComponentLink1Description: Manufacturer URL; ComponentLink1URL: http://www.national.com/; ComponentLink2Description: LP38693 Datasheet; ComponentLink2URL: http://www.national.com/ds/LP/LP38691.pdf; ComponentLink3Description: LP38693 Web Page; ComponentLink3URL: http://www.national.com/pf/LP/LP38693.html; ComponentLink4Description: MP05A Package Page; ComponentLink4URL: http://www.national.com/packaging/folders/mp05a.html
footprint MP05A_N (SOT223, 5-Leads, Body 6.5x3.5mm, Pitch 1.5mm, Lead Span 7mm, IPC Medium Density)
footprint MP05A_L (SOT223, 5-Leads, Body 6.5x3.5mm, Pitch 1.5mm, Lead Span 7mm, IPC High Density)
footprint MP05A_M (SOT223, 5-Leads, Body 6.5x3.5mm, Pitch 1.5mm, Lead Span 7mm, IPC Low Density)
pins: 1 EN (in), 2 NC, 3 OUT (power), 4 IN (power), 5 GND (power)

## LP38693MP-5.0
designator U?
500mA Low Dropout CMOS Linear Regulators, 5-pin SOT-223, 1000 Reel; PartNumber: LP38693MP-5.0; Manufacturer: National Semiconductor; PackageTopMarking: XYTT*LJZB; PowerWise: Y; CompType: LDO IC; DatasheetVersion: Jun-2011; PackageVersion: revA, Jan-2000; PackageReference: MP05A; PackageDescription: Moldec SOT-223, 6.50 x 3.56 x 1.6mm Body, 5 Lead, 1.5mm Pitch; RoHS: N; PinCount: 5; High-Reliability: Y; Code_JEDEC: TO-261-AB; Code_IPC: SOT223-5; ComponentLink1Description: Manufacturer URL; ComponentLink1URL: http://www.national.com/; ComponentLink2Description: LP38693 Datasheet; ComponentLink2URL: http://www.national.com/ds/LP/LP38691.pdf; ComponentLink3Description: LP38693 Web Page; ComponentLink3URL: http://www.national.com/pf/LP/LP38693.html; ComponentLink4Description: MP05A Package Page; ComponentLink4URL: http://www.national.com/packaging/folders/mp05a.html
footprint MP05A_N (SOT223, 5-Leads, Body 6.5x3.5mm, Pitch 1.5mm, Lead Span 7mm, IPC Medium Density)
footprint MP05A_L (SOT223, 5-Leads, Body 6.5x3.5mm, Pitch 1.5mm, Lead Span 7mm, IPC High Density)
footprint MP05A_M (SOT223, 5-Leads, Body 6.5x3.5mm, Pitch 1.5mm, Lead Span 7mm, IPC Low Density)
pins: 1 EN (in), 2 NC, 3 OUT (power), 4 IN (power), 5 GND (power)

## LP38693MP-5.0/NOPB
designator U?
500mA Low Dropout CMOS Linear Regulators Stable with Ceramic Output Capacitors, 5-pin SOT-223, Pb-Free, 1000 Reel; PartNumber: LP38693MP-5.0/NOPB; Manufacturer: National Semiconductor; PackageTopMarking: XYTT*LJZB; PowerWise: Y; CompType: LDO IC; DatasheetVersion: Jun-2011; PackageVersion: revA, Jan-2000; PackageReference: MP05A; PackageDescription: Moldec SOT-223, 6.50 x 3.56 x 1.6mm Body, 5 Lead, 1.5mm Pitch; RoHS: Y; PinCount: 5; High-Reliability: Y; Code_JEDEC: TO-261-AB; Code_IPC: SOT223-5; ComponentLink1Description: Manufacturer URL; ComponentLink1URL: http://www.national.com/; ComponentLink2Description: LP38693 Datasheet; ComponentLink2URL: http://www.national.com/ds/LP/LP38691.pdf; ComponentLink3Description: LP38693 Web Page; ComponentLink3URL: http://www.national.com/pf/LP/LP38693.html; ComponentLink4Description: MP05A Package Page; ComponentLink4URL: http://www.national.com/packaging/folders/mp05a.html
footprint MP05A_N (SOT223, 5-Leads, Body 6.5x3.5mm, Pitch 1.5mm, Lead Span 7mm, IPC Medium Density)
footprint MP05A_L (SOT223, 5-Leads, Body 6.5x3.5mm, Pitch 1.5mm, Lead Span 7mm, IPC High Density)
footprint MP05A_M (SOT223, 5-Leads, Body 6.5x3.5mm, Pitch 1.5mm, Lead Span 7mm, IPC Low Density)
pins: 1 EN (in), 2 NC, 3 OUT (power), 4 IN (power), 5 GND (power)

## LP38693MP-ADJ
designator U?
500mA Low Dropout CMOS Linear Regulators, 5-pin SOT-223, 1000 Reel; PartNumber: LP38693MP-ADJ; Manufacturer: National Semiconductor; PackageTopMarking: XYTT*LJUB; PowerWise: Y; CompType: LDO IC; DatasheetVersion: Jun-2011; PackageVersion: revA, Jan-2000; PackageReference: MP05A; PackageDescription: Moldec SOT-223, 6.50 x 3.56 x 1.6mm Body, 5 Lead, 1.5mm Pitch; RoHS: N; PinCount: 5; High-Reliability: Y; Code_JEDEC: TO-261-AB; Code_IPC: SOT223-5; ComponentLink1Description: Manufacturer URL; ComponentLink1URL: http://www.national.com/; ComponentLink2Description: LP38693 Datasheet; ComponentLink2URL: http://www.national.com/ds/LP/LP38691-ADJ.pdf; ComponentLink3Description: LP38693 Web Page; ComponentLink3URL: http://www.national.com/pf/LP/LP38693.html; ComponentLink4Description: MP05A Package Page; ComponentLink4URL: http://www.national.com/packaging/folders/mp05a.html
footprint MP05A_N (SOT223, 5-Leads, Body 6.5x3.5mm, Pitch 1.5mm, Lead Span 7mm, IPC Medium Density)
footprint MP05A_L (SOT223, 5-Leads, Body 6.5x3.5mm, Pitch 1.5mm, Lead Span 7mm, IPC High Density)
footprint MP05A_M (SOT223, 5-Leads, Body 6.5x3.5mm, Pitch 1.5mm, Lead Span 7mm, IPC Low Density)
pins: 1 EN (in), 2 ADJ (in), 3 OUT (power), 4 IN (power), 5 GND (power)

## LP38693MP-ADJ/NOPB
designator U?
500mA Low Dropout CMOS Linear Regulators with Adjustable Output Stable with Ceramic Output Capacitors, 5-pin SOT-223, Pb-Free, 1000 Reel; PartNumber: LP38693MP-ADJ/NOPB; Manufacturer: National Semiconductor; PackageTopMarking: XYTT*LJUB; PowerWise: Y; CompType: LDO IC; DatasheetVersion: Jun-2011; PackageVersion: revA, Jan-2000; PackageReference: MP05A; PackageDescription: Moldec SOT-223, 6.50 x 3.56 x 1.6mm Body, 5 Lead, 1.5mm Pitch; RoHS: Y; PinCount: 5; High-Reliability: Y; Code_JEDEC: TO-261-AB; Code_IPC: SOT223-5; ComponentLink1Description: Manufacturer URL; ComponentLink1URL: http://www.national.com/; ComponentLink2Description: LP38693 Datasheet; ComponentLink2URL: http://www.national.com/ds/LP/LP38691-ADJ.pdf; ComponentLink3Description: LP38693 Web Page; ComponentLink3URL: http://www.national.com/pf/LP/LP38693.html; ComponentLink4Description: MP05A Package Page; ComponentLink4URL: http://www.national.com/packaging/folders/mp05a.html
footprint MP05A_N (SOT223, 5-Leads, Body 6.5x3.5mm, Pitch 1.5mm, Lead Span 7mm, IPC Medium Density)
footprint MP05A_L (SOT223, 5-Leads, Body 6.5x3.5mm, Pitch 1.5mm, Lead Span 7mm, IPC High Density)
footprint MP05A_M (SOT223, 5-Leads, Body 6.5x3.5mm, Pitch 1.5mm, Lead Span 7mm, IPC Low Density)
pins: 1 EN (in), 2 ADJ (in), 3 OUT (power), 4 IN (power), 5 GND (power)